# EAGLE library part XC6190AC157R-G (library XC6190AC157R-G)
Supervisory Circuits Push Button Reboot Controller Source: Datasheet <https://www.torexsemi.com/file/xc6190/XC6190.pdf>
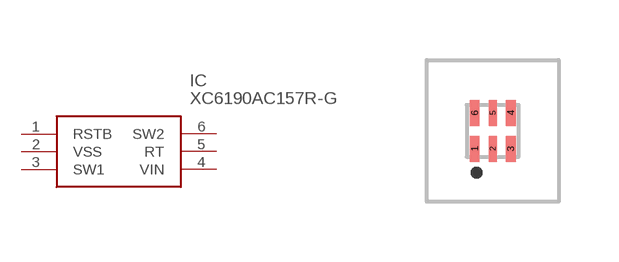
[diagram p0: symbol with the pads of XC6190AC157RG; footprint XC6190AC157RG]

Designator prefix IC

## XC6190AC157R-G (Description: Supervisory Circuits Push Button Reboot Controller; Height: 0.4mm; Manufacturer_Name: Torex; Manufacturer_Part_Number: XC6190AC157R-G; Mouser_Part_Number: 865-XC6190AC157R-G; Mouser_Price-Stock: https://www.mouser.co.uk/ProductDetail/Torex-Semiconductor/XC6190AC157R-G?qs=AsjdqWjXhJ%2F4gevzFaWDgw%3D%3D)  [XC6190AC157RG]
1  RSTB
2  VSS
3  SW1
4  VIN
5  RT
6  SW2

## Footprint XC6190AC157RG (pad centres in mm)
XC6190AC157R-G-2
smd 0.25 x 0.65: 1 -0.45,-0.45; 3 0.45,-0.45; 4 0.45,0.45; 6 -0.45,0.45
smd 0.2 x 0.65: 2 0,-0.45; 5 0,0.45